# Altium footprint library CONUFL001SMDT.PcbLib: 1 footprints
Each footprint in its own frame and in the unit in brackets; x right, y up, seen from the top. Pads: shape width x height; smd on the part's side, far side on the other; paste and mask are expansions set on the pad; w line width, h text height; cw(c..) or ccw(c..) is an arc to the next point about the centre after c.
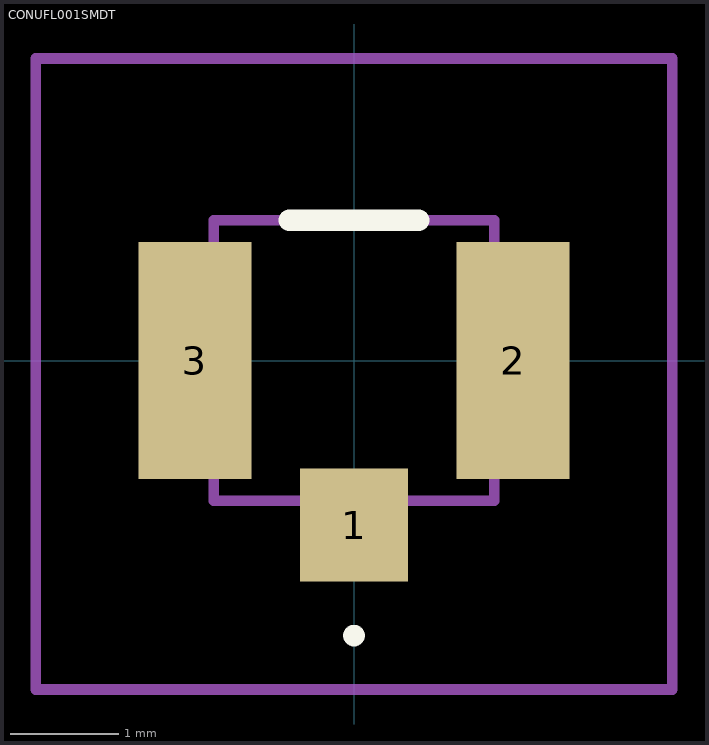
[diagram p0: the footprint, top view; thin cyan lines are the x and y axes]

## CONUFL001SMDT [mm]
pads (3):
  rect 1x1.05 smd: 1(0,-1.525)
  rect 1.05x2.2 smd: 2(1.475,0) 3(-1.475,0)
Top Overlay:
  lines w0.1: 0,-2.6 cw(c0,-2.55) 0,-2.5 ; 0,-2.6 0,-2.6 ; 0,-2.6 ccw(c0,-2.55) 0,-2.5 ; 0,-2.5 0,-2.5
  lines w0.2: -0.6,1.3 0.6,1.3
Mechanical 15:
  lines w0.1: -1.3,-1.3 1.3,-1.3 1.3,1.3 -1.3,1.3 -1.3,-1.3
Mechanical 20:
  lines w0.1: -2.95,-3.05 2.95,-3.05 2.95,2.8 -2.95,2.8 -2.95,-3.05